# Altium schematic symbol library U_S-8264.SchLib: 1 symbol
Pins are listed as number, name and electrical type; pins without a type are passive.

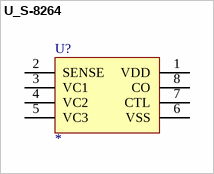
[diagram p0: symbol U_S-8264]

## U_S-8264
designator U?
pins: 1 VDD, 2 SENSE, 3 VC1, 4 VC2, 5 VC3, 6 VSS, 7 CTL, 8 CO